# Altium schematic symbol library PX4FMUv2.4.6.SCHLIB: 56 symbols
Pins are listed as number, name and electrical type; pins without a type are passive.

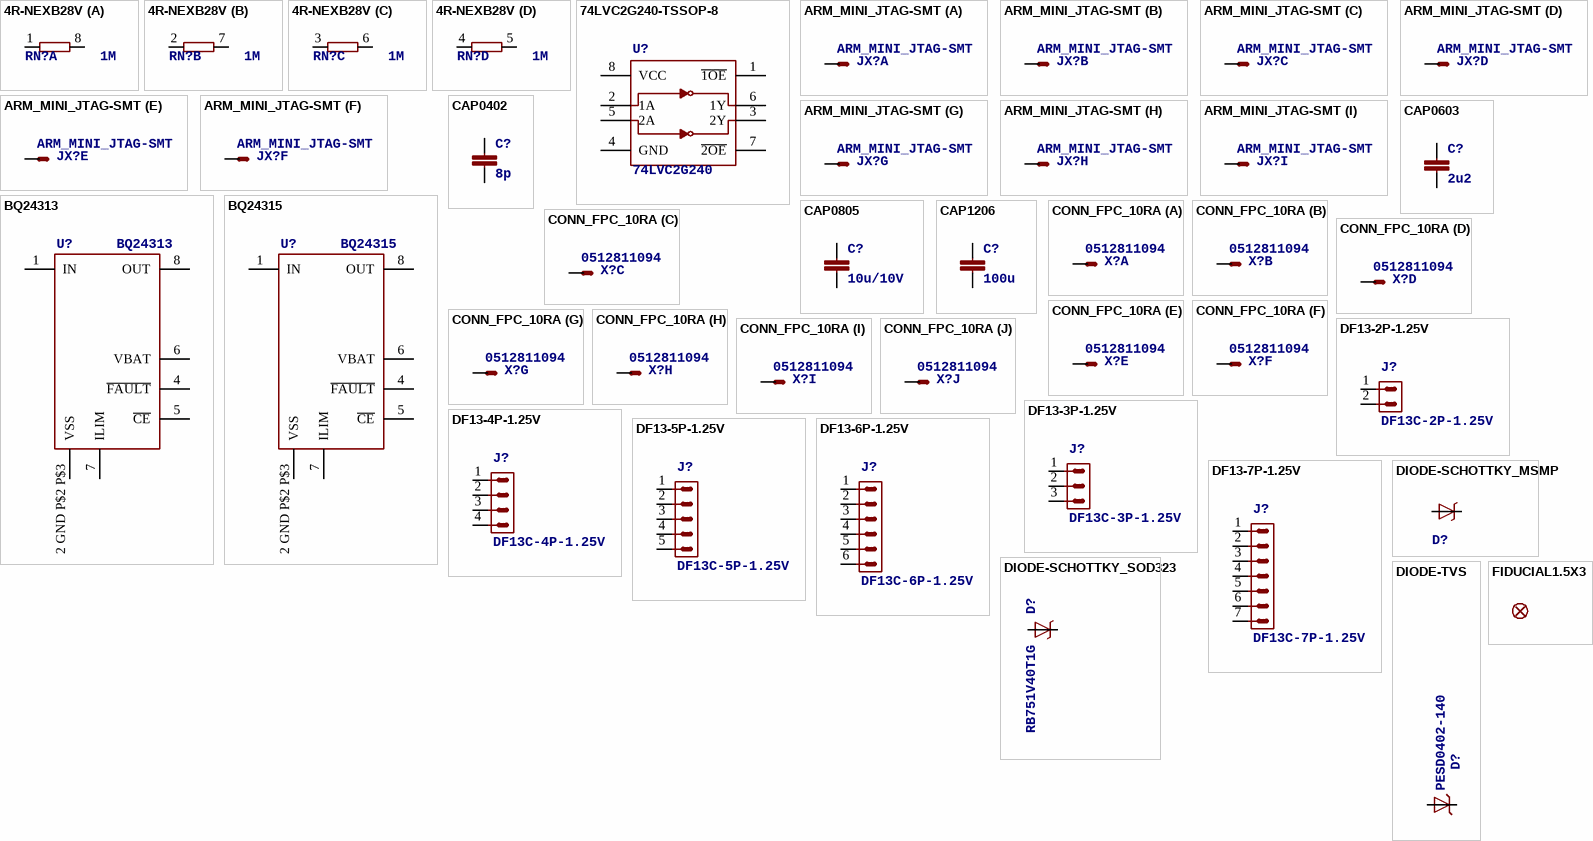
[diagram p0: symbols 4R-NEXB28V to FIDUCIAL1.5X3]

## 4R-NEXB28V
designator RN?, comment 1M
<b>Array Chip Resistor</b><p> / Source: RS Component / Phycomp; PARTNO: EXB-28V105JX; OC_FARNELL: unknown; OC_NEWARK: unknown
footprint EXB28V
footprint EXB28V
footprint EXB28V
footprint EXB28V
part A pins: 1, 8 2
part B pins: 2 1, 7 2
part C pins: 3 1, 6 2
part D pins: 4 1, 5 2

## 74LVC2G240-TSSOP-8
designator U?, comment 74LVC2G240
Dual inverter tri-state, 3.3V/5V compatible / <br /> / <a href="http://www.nxp.com/documents/data_sheet/74LVC2G240.pdf">http://www.nxp.com/documents/data_sheet/74LVC2G240.pdf</a><br /> / <a href="http://focus.ti.com/lit/ds/symlink/sn74lvc2g240.pdf">http://focus.ti.com/lit/ds/symlink/sn74lvc2g240.pdf</a>; PARTNO: 74LVC2G240DP,125
footprint TSSOP8_SOT505-2
pins: 1 ~{1OE}, 2 1A, 3 2Y, 4 GND (oe), 5 2A, 6 1Y, 7 ~{2OE}, 8 VCC (oe)

## ARM_MINI_JTAG-SMT
designator JX?
<b>CONNECTOR</b><p> / wire to board 1.25 mm (.049 inch) pitch header; PARTNO: M50-3900542; BOM: EXCLUDE
footprint FTSH-105-01-XXX-DV-K
footprint FTSH-105-01-XXX-DV-K
footprint FTSH-105-01-XXX-DV-K
footprint FTSH-105-01-XXX-DV-K
footprint FTSH-105-01-XXX-DV-K
footprint FTSH-105-01-XXX-DV-K
footprint FTSH-105-01-XXX-DV-K
footprint FTSH-105-01-XXX-DV-K
footprint FTSH-105-01-XXX-DV-K
part A pins: 1 S
part B pins: 2 S
part C pins: 3 S
part D pins: 4 S
part E pins: 5 S
part F pins: 6 S
part G pins: 8 S
part H pins: 9 S
part I pins: 10 S

## BQ24313
designator U?
PARTNO: BQ24313DSGT
footprint QFN8-DSG
pins: 1 IN, 2 GND P$2 P$3 VSS, 4 ~{FAULT}, 5 ~{CE}, 6 VBAT, 7 ILIM, 8 OUT

## BQ24315
designator U?
PARTNO: BQ24315DSGR
footprint QFN8-DSG
pins: 1 IN, 2 GND P$2 P$3 VSS, 4 ~{FAULT}, 5 ~{CE}, 6 VBAT, 7 ILIM, 8 OUT

## CAP0402
designator C?, comment 8p
<b>Capacitor</b> / Standard 0603 ceramic capacitor, and 0.1" leaded capacitor.; PARTNO: C1005C0G1H080C
footprint 0402-CAP
pins: P$1 1, P$2 2

## CAP0603
designator C?, comment 2u2
<b>Capacitor</b> / Standard 0603 ceramic capacitor, and 0.1" leaded capacitor.; PARTNO: C1608X6S1C225K080AC
footprint 0603-CAP
pins: P$1 1, P$2 2

## CAP0805
designator C?, comment 10u/10V
<b>Capacitor</b> / Standard 0603 ceramic capacitor, and 0.1" leaded capacitor.; PARTNO: CC0805ZKY5V6BB106
footprint 0805-CAP
pins: P$1 1, P$2 2

## CAP1206
designator C?, comment 100u
<b>Capacitor</b> / Standard 0603 ceramic capacitor, and 0.1" leaded capacitor.; PARTNO: C3216X5R1A107M160AC
footprint 1206-CAP
pins: P$1 1, P$2 2

## CONN_FPC_10RA
designator X?, comment 0512811094
10-pin FPC connector for PX4 sensor board; PARTNO: 0781191109; BOM: EXCLUDE
footprint 51281-1094
footprint 51281-1094
footprint 51281-1094
footprint 51281-1094
footprint 51281-1094
footprint 51281-1094
footprint 51281-1094
footprint 51281-1094
footprint 51281-1094
footprint 51281-1094
part A pins: 1 S
part B pins: 2 S
part C pins: 3 S
part D pins: 4 S
part E pins: 5 S
part F pins: 6 S
part G pins: 7 S
part H pins: 8 S
part I pins: 9 S
part J pins: 10 S

## DF13-2P-1.25V
designator J?, comment DF13C-2P-1.25V
DF13-2P / 1.25mm Pitch Miniature Crimping Connector.; PARTNO: DF13C-2P-1.25V(20)
footprint DF13C-2P-1.25V
pins: 1, 2

## DF13-3P-1.25V
designator J?, comment DF13C-3P-1.25V
DF13-3P / 1.25mm Pitch Miniature Crimping Connector.; PARTNO: DF13C-3P-1.25V(20)
footprint DF13C-3P-1.25V
pins: 1, 2, 3

## DF13-4P-1.25V
designator J?, comment DF13C-4P-1.25V
DF13-4P / 1.25mm Pitch Miniature Crimping Connector.; PARTNO: DF13C-4P-1.25V(20)
footprint DF13C-4P-1.25V
pins: 1, 2, 3, 4

## DF13-5P-1.25V
designator J?, comment DF13C-5P-1.25V
DF13-5P / 1.25mm Pitch Miniature Crimping Connector.; PARTNO: DF13C-5P-1.25V(20)
footprint DF13C-5P-1.25V
pins: 1, 2, 3, 4, 5

## DF13-6P-1.25V
designator J?, comment DF13C-6P-1.25V
DF13-6P / 1.25mm Pitch Miniature Crimping Connector.; PARTNO: DF13C-6P-1.25V(20)
footprint DF13C-6P-1.25V
pins: 1, 2, 3, 4, 5, 6

## DF13-7P-1.25V
designator J?, comment DF13C-7P-1.25V
DF13-7P / 1.25mm Pitch Miniature Crimping Connector.; PARTNO: DF13C-7P-1.25V(20)
footprint DF13C-7P-1.25V
pins: 1, 2, 3, 4, 5, 6, 7

## DIODE-SCHOTTKY_MSMP
designator D?, comment MSS1P4-M3  (value not drawn)
Schottky barrier diode in DO214AC, e.g. Fairchild SS14.
footprint MICROSMP
pins: ANODE A, CATHODE C

## DIODE-SCHOTTKY_SOD323
designator D?, comment RB751V40T1G
Schottky barrier diode in DO214AC, e.g. Fairchild SS14.
footprint SOD323
pins: A, C

## DIODE-TVS
designator D?, comment PESD0402-140
footprint 0402-TVS
pins: A, C

## FIDUCIAL1.5X3
designator JP?  (value not drawn)
<b>Fiducial Alignment Points</b> / Various fiducial points for machine vision alignment.; BOM: EXCLUDE; PARTNO: *
footprint FIDUCIAL-1.5X3

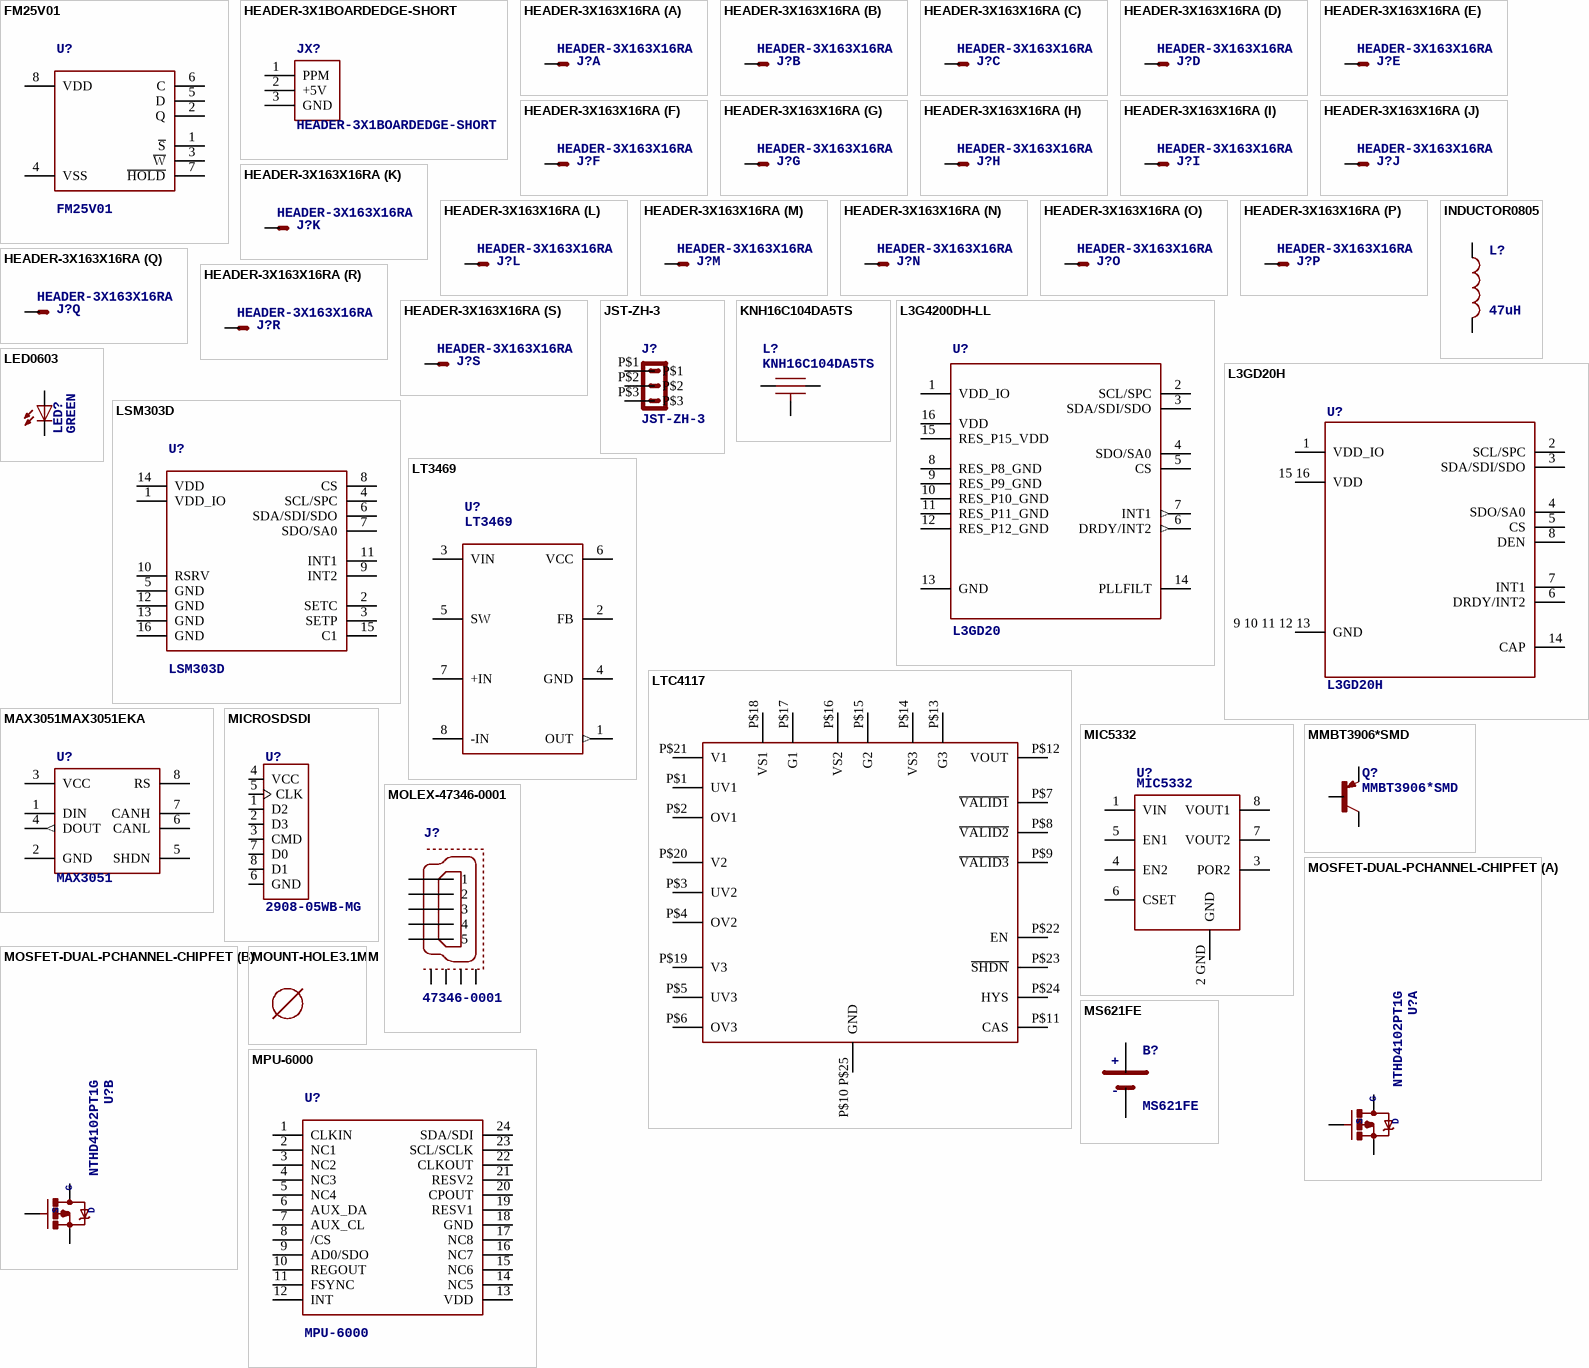
[diagram p1: symbols FM25V01 to MS621FE]

## FM25V01
designator U?
<b>FM25V01 128Kb Serial 3V F-RAM Memory</b>; PARTNO: FM25V01-G; DATASHEET: http://www.ramtron.com/files/datasheets/FM25V01_ds.pdf; LINK: http://www.digikey.com/product-detail/en/FM25V01-GTR/1140-1026-1-ND/2809832; MFGPN: FM25V01
footprint SO08
pins: 1 ~{S}, 2 Q, 3 ~{W}, 4 VSS, 5 D, 6 C, 7 ~{HOLD}, 8 VDD

## HEADER-3X1BOARDEDGE-SHORT
designator JX?
<h3>Single row 0.1" servo header</h3>; BOM: EXCLUDE
footprint HEADER_3X01_SMD_H_BOARD_EDGE_SHORT
pins: 1 PPM, 2 +5V, 3 GND

## HEADER-3X163X16RA
designator J?
3x16 servo header; BOM: EXCLUDE
footprint 3X16RA
footprint 3X16RA
footprint 3X16RA
footprint 3X16RA
footprint 3X16RA
footprint 3X16RA
footprint 3X16RA
footprint 3X16RA
footprint 3X16RA
footprint 3X16RA
footprint 3X16RA
footprint 3X16RA
footprint 3X16RA
footprint 3X16RA
footprint 3X16RA
footprint 3X16RA
footprint 3X16RA
footprint 3X16RA
footprint 3X16RA
part A pins: 1 S
part B pins: 2 S
part C pins: 4 S
part D pins: 7 S
part E pins: 10 S
part F pins: 13 S
part G pins: 16 S
part H pins: 19 S
part I pins: 22 S
part J pins: 25 S
part K pins: 28 S
part L pins: 31 S
part M pins: 34 S
part N pins: 37 S
part O pins: 40 S
part P pins: 43 S
part Q pins: 46 S
part R pins: 3 6 9 12 15 18 21 24 27 30 33 36 39 42 45 48 S
part S pins: 5 8 11 14 17 20 23 26 29 32 35 38 41 44 47 S

## INDUCTOR0805
designator L?, comment 47uH
<b>Inductors</b> / Basic Inductor/Choke - 0603 and 1210. Footprints are not proven and vary greatly between part numbers. / SRR1210: Bourns SRR1210 parts, e.g. SRR1210-100M; PARTNO: MLZ2012M470W
footprint 0805-IND
pins: P$1 1, P$2 2

## JST-ZH-3
designator J?
PARTNO: B3B-ZR-SM4-TF (LF)(SN)(P)
footprint JST-ZH-SMT-VERTICAL
pins: P$1, P$2, P$3

## KNH16C104DA5TS
designator L?
Kyocera KNH16C104DA5TS EMI filter; PARTNO: KNH16C104DA5TS
footprint KYOCERA-KNH16-DA
pins: P$1, P$2, P$3 P$4 P$5 P$3

## L3G4200DH-LL
designator U?, comment L3GD20
<h3>L3G4200DH - Digital 3-axis Gyroscope</h3> / The L3G4200DH is a low-power three-axis / angular rate sensor. The L3G4200DH has a full scale of ±250/±500/ / ±2000 dps and is capable of measuring rates with / a user-selectable bandwidth. It can operate within a / temperature range from -40 °C to +85 °C. Supply voltage: 2.4 V to 3.6 V. Full datasheet:<br /><br /> / <a href="http://www.st.com/stonline/products/literature/ds/17300.pdf">L3G4200DH Datasheet</a>; PARTNO: L3GD20
footprint L3G4200DH-MAN
pins: 1 VDD_IO, 2 SCL/SPC, 3 SDA/SDI/SDO, 4 SDO/SA0, 5 CS, 6 DRDY/INT2 (out), 7 INT1 (out), 8 RES_P8_GND, 9 RES_P9_GND, 10 RES_P10_GND, 11 RES_P11_GND, 12 RES_P12_GND, 13 GND, 14 PLLFILT, 15 RES_P15_VDD, 16 VDD

## L3GD20H
designator U?
<b>L3GD20H MEMS motion sensor: 3-axis digital output gyroscope</b>; BOM: EXCLUDE; DATASHEET: http://www.st.com/internet/com/TECHNICAL_RESOURCES/TECHNICAL_LITERATURE/DATASHEET/DM00060659.pdf; LINK: http://www.st.com/internet/analog/product/254039.jsp; MFGPN: L3GD20H; PARTNO: L3GD20H
footprint LGA-16L
pins: 1 VDD_IO, 2 SCL/SPC, 3 SDA/SDI/SDO, 4 SDO/SA0, 5 CS, 6 DRDY/INT2, 7 INT1, 8 DEN, 9 10 11 12 13 GND, 14 CAP, 15 16 VDD

## LED0603
designator LED?, comment GREEN
<b>LEDs</b> / Standard schematic elements and footprints for 5mm, 3mm, 1206, and 0603 sized LEDs. 5mm - Spark Fun Electronics SKU : COM-00529 (and others); PARTNO: APTD1608CGCK
footprint 0603-LED
pins: A, C

## LSM303D
designator U?
<b>LSM303D Ultra compact high performance e-compass: 3D accelerometer and 3D magnetometer module</b>; DATASHEET: http://www.st.com/internet/com/TECHNICAL_RESOURCES/TECHNICAL_LITERATURE/DATASHEET/DM00057547.pdf; LINK: http://www.st.com/internet/analog/product/253884.jsp; MFGPN: LSM303D; PARTNO: LSM303D
footprint LGA-16L
pins: 1 VDD_IO, 2 SETC, 3 SETP, 4 SCL/SPC, 5 GND, 6 SDA/SDI/SDO, 7 SDO/SA0, 8 CS, 9 INT2, 10 RSRV, 11 INT1, 12 GND, 13 GND, 14 VDD, 15 C1, 16 GND

## LT3469
designator U?
LT3469 Piezo microactuator driver with boost regulator; PARTNO: LT3469ETS8
footprint SOT23-8
pins: 1 OUT (out), 2 FB, 3 VIN (power), 4 GND (power), 5 SW, 6 VCC, 7 +IN, 8 -IN

## LTC4117
designator U?, comment LTC4417  (value not drawn)
PARTNO: LTC4417IUF#PBF
footprint MO-220
pins: P$1 UV1, P$2 OV1, P$3 UV2, P$4 OV2, P$5 UV3, P$6 OV3, P$7 ~{VALID1}, P$8 ~{VALID2}, P$9 ~{VALID3}, P$10 P$25 GND, P$11 CAS, P$12 VOUT, P$13 G3, P$14 VS3, P$15 G2, P$16 VS2, P$17 G1, P$18 VS1, P$19 V3, P$20 V2, P$21 V1, P$22 EN, P$23 ~{SHDN}, P$24 HYS

## MAX3051MAX3051EKA
designator U?, comment MAX3051
3.3-V CAN TRANSCEIVER; PARTNO: MAX3051EKA
footprint SOT23-8
pins: 1 DIN, 2 GND (oe), 3 VCC, 4 DOUT (out), 5 SHDN, 6 CANL, 7 CANH, 8 RS

## MIC5332
designator U?
PARTNO: MIC5332-SSYMT
footprint MLF-8-EPAD
pins: 1 VIN, 2 GND GND, 3 POR2, 4 EN2, 5 EN1, 6 CSET, 7 VOUT2, 8 VOUT1

## MICROSDSDI
designator U?, comment 2908-05WB-MG
PARTNO: 2908-05WB-MG
footprint MICROSD
pins: 1 D2, 2 D3, 3 CMD, 4 VCC, 5 CLK, 6 GND (oe), 7 D0, 8 D1

## MMBT3906*SMD
designator Q?
<b>PNP Transistror</b>
footprint SOT23-BEC
pins: B, C, E

## MOLEX-47346-0001
designator J?, comment 47346-0001
MICRO USB B, BOTTOM MOUNT
footprint MOLEX-47346-0001
pins: D+ 3, D- 2, GND 5 (oe), GND1, GND2, GND3, GND4, ID 4, VBUS 1 (oe)

## MOSFET-DUAL-PCHANNEL-CHIPFET
designator U?, comment NTHD4102PT1G
PARTNO: NTHD4102PT1G; D: D; S: S; G: G
footprint 1206-8
footprint 1206-8
part A pins: P$1 S, P$2 G, P$7 P$8 D
part B pins: P$3 S, P$4 G, P$5 P$6 D

## MOUNT-HOLE3.1MM
designator M3_MOUNT?  (value not drawn)
BOM: EXCLUDE; PARTNO: *
footprint MOUNT-HOLE3.1

## MPU-6000
designator U?
<b>Invensense MPU-6000: 3-axis gyro, 3-axis accel & 9-axis MotionFusion</b> / <br> / <br> / The MPU-60X0 Motion Processing Unit (MPU?) is the world?s first motion processing solution with / integrated 9-axis sensor fusion for handset and tablet applications, game controllers, motion pointer remote / controls, and other consumer devices. The MPU-60X0 has an embedded 3-axis MEMS gyroscope, 3-axis / MEMS accelerometer and Digital Motion Processor? (DMP) hardware accelerator engine with an auxiliary / I / 2 / C port that interfaces to third party digital sensors, such as magnetometers. Interfacing with a 3-axis / magnetometer delivers a complete 9-axis sensor fusion output to the MPU?s primary I / 2 / C or SPI port. (SPI is / available on MPU-6000 only). This combines acceleration and rotational motion plus heading information into / a single data stream for the application; DATASHEET: http://invensense.com/mems/gyro/documents/PS-MPU-6000A-00_v1.0.pdf; LINK: http://invensense.com/mems/gyro/mpu6000.html; MFGPN: MPU-6000; PARTNO: MPU-6000
footprint QFN-24
pins: 1 CLKIN, 2 NC1, 3 NC2, 4 NC3, 5 NC4, 6 AUX_DA, 7 AUX_CL, 8 /CS, 9 AD0/SDO, 10 REGOUT, 11 FSYNC, 12 INT, 13 VDD, 14 NC5, 15 NC6, 16 NC7, 17 NC8, 18 GND, 19 RESV1, 20 CPOUT, 21 RESV2, 22 CLKOUT, 23 SCL/SCLK, 24 SDA/SDI

## MS621FE
designator B?
<b>SEIKO 6.8mm Rechargeable 3V lithium battery<b> / <br> / <br> / <b>If discontinued or not available, similar devices are available from Panasonic and Sanyo, usually direct replacements.<b>; PARTNO: MS621FE-FL11E; DATASHEET: http://speed.sii.co.jp/data/file_PRODUCT_MASTER_50112_TITLE_IMAGESP.pdf; LINK: http://search.digikey.com/us/en/products/MS621FE-FL11E/728-1057-ND/1889208; MFGPN: MS621FE; +: +; -: -
footprint MS621FE
pins: 1 POS, 2 NEG

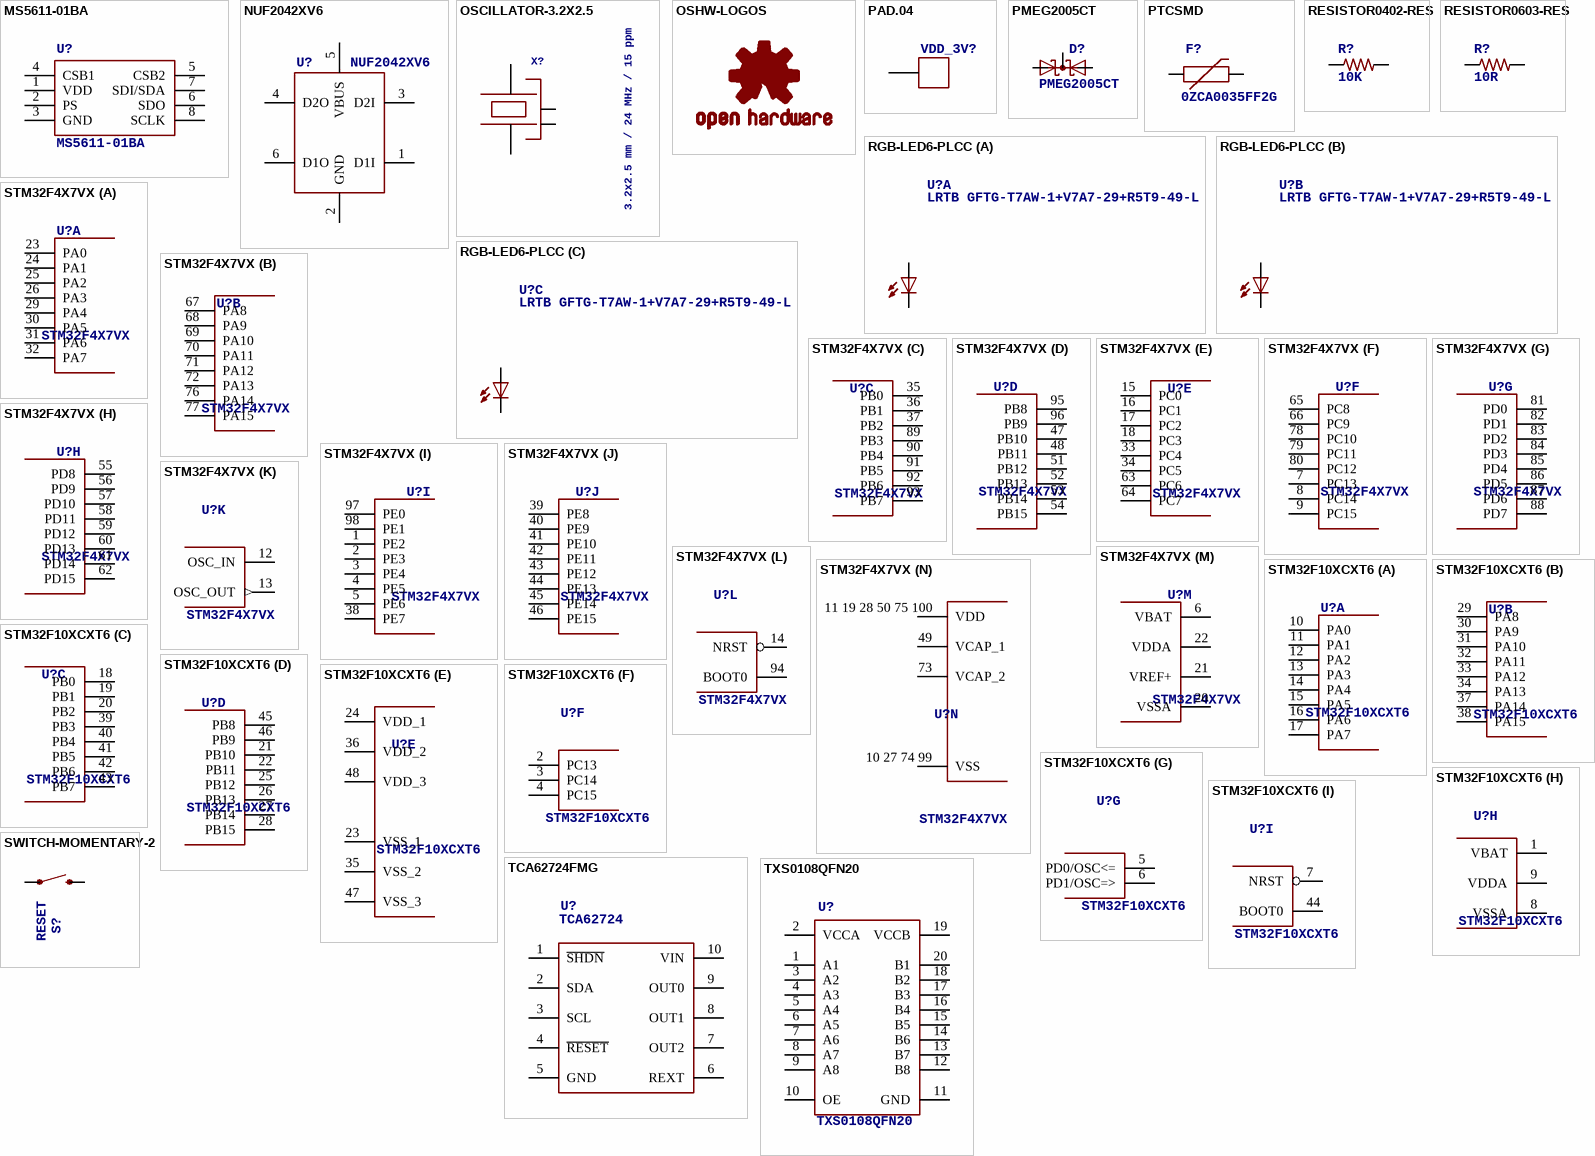
[diagram p2: symbols MS5611-01BA to TXS0108QFN20]

## MS5611-01BA
designator U?
<b>MS5611-01BA</b> / <p>The MS5611-01BA is a new generation of high resolution altimeter sensors from MEAS Switzerland with SPI / and I / 2 / C bus interface. It is optimized for altimeters and  variometers with an altitude resolution of 10 cm. The / sensor module includes a high linearity pressure sensor and an ultra low power 24 bit ?? ADC with internal / factory calibrated coefficients. It provides a precise digital 24 Bit pressure and temperature value and different / operation modes that allow the user to optimize for conversion speed and current consumption. A high / resolution temperature output allows the implementation of an altimeter/thermometer function without any / additional sensor. The MS5611-01BA can be interfaced to virtually any microcontroller. The communication / protocol is simple, without the need of programming internal registers in the device. Small dimensions of only / 5.0 mm x 3.0 mm and a height of 1.7 mm allow for integration in mobile devices. This new sensor module / generation is based on leading MEMS technology and latest benefits from  MEAS Switzerland proven / experience and know-how in high volume manufacturing of altimeter modules, which have been widely used for / over a decade. The sensing principle employed leads to very low hysteresis and high stability of both pressure / and temperature signal.</p> / <ul> / <li>High resolution module, 10 cm </li> / <li>Fast conversion down to 1 ms </li> / <li>Low power, 1 µA (standby < 0.15 µA) </li> / <li>QFN package 5.0 x 3.0 x 1.7 mm3</li> / <li>Supply voltage 1.8 to 3.6 V </li> / <li>Integrated digital pressure sensor (24 bit ?? ADC) </li> / <li>Operating range: 10 to 1200 mbar, -40 to +85 °C </li> / <li>I2C and SPI interface up to 20 MHz </li> / <li>No external components (Internal oscillator) </li> / <li>Excellent long term stability</li> / </ul>; DATASHEET: http://www.meas-spec.com/downloads/MS5611-01BA01.pdf; LINK: http://www.meas-spec.com/product/t_product.aspx?id=8503#; MFGPN: MS5611-01BA; PARTNO: MS5611-01BA
footprint MS5611-01BA
pins: 1 VDD, 2 PS, 3 GND, 4 CSB1, 5 CSB2, 6 SDO, 7 SDI/SDA, 8 SCLK

## NUF2042XV6
designator U?
PARTNO: NUF2042XV6T1G
footprint SOT563-6
pins: 1 D1I, 2 GND, 3 D2I, 4 D2O, 5 VBUS, 6 D1O

## OSCILLATOR-3.2X2.5
designator X?, comment 3.2x2.5 mm / 24 MHz / 15 ppm
Crystal Oscillator in 3.2x2.5 SMD
footprint OSCILLATOR-3.2X2.5
pins: 1, 2 NC_2 (oe), 3, 4 NC_4 (oe)

## OSHW-LOGOS
designator OSHW_LOGO?  (value not drawn)
<b>Open Source Hardware Logo</b> This logo indicates the piece of hardware it is found on incorporates a OSHW license and/or adheres to the definition of open source hardware found here: http://freedomdefined.org/OSHW; BOM: EXCLUDE; PARTNO: *
footprint OSHW-LOGO-S

## PAD.04
designator VDD_3V?  (value not drawn)
<h3>Test pad</h3> / This footprint includes three classes: The actual test pads, a pogo-pin footprint to mount the pogo-pin as through-hole part and a hole footprint which allows the head of the pogo-pin to pass through (do NOT use the hole to mount the pogo-pin). In a typical test setup, the stack would consist of three PCBs: The actual PCB under testing with a test pad on the bottom, then a second PCB with the hole for the pogo-pin head where the PCB under testing is pressed on and a third PCB at 30 mm / 1.2" distance with the pogo-pin footprints. The pogo-pins are soldered to the last PCB. To create the stack, copy the board under testing and exchange the footprints - this way the correct positioning is ensured.; BOM: EXCLUDE; PARTNO: *
footprint PAD.04X.04
pins: P$1

## PMEG2005CT
designator D?
<b>500 mA low VF dual MEGA Schottky barrier rectifier</b> / <p>http://www.nxp.com/documents/data_sheet/PMEG2005CT.pdf</p>; PARTNO: PMEG2005CT
footprint SOT23-3
pins: 1 A1, 2 A2, 3 CC

## PTCSMD
designator F?, comment 0ZCA0035FF2G
<b>Resettable Fuse PTC</b> / Resettable Fuse. Spark Fun Electronics SKU : COM-08357; PARTNO: 0ZCA0035FF2G
footprint PTC-1206
pins: 1, 2

## RESISTOR0402-RES
designator R?, comment 10K
<b>Resistor</b> / Basic schematic elements and footprints for 0603, 1206, and PTH 1/10th watt (small) resistors.; PARTNO: RC0402FR-0710KL
footprint 0402-RES
pins: P$1 1, P$2 2

## RESISTOR0603-RES
designator R?, comment 10R
<b>Resistor</b> / Basic schematic elements and footprints for 0603, 1206, and PTH 1/10th watt (small) resistors.; PARTNO: RC1608J100CS
footprint 0603-RES
pins: 1, 2

## RGB-LED6-PLCC
designator U?, comment LRTB GFTG-T7AW-1+V7A7-29+R5T9-49-L
RGB LED with separate anode/cathode terminals; PARTNO: LRTB GFTG-T7AW-1+V7A7-29+R5T9-49-L
footprint 6-PLCC
footprint 6-PLCC
footprint 6-PLCC
part A pins: A1 A, C1 C
part B pins: A2 A, C2 C
part C pins: A3 A, C3 C

## STM32F4X7VX
designator U?
STM32F4X7VX 100 pin LQFP / STM32F407VE - 512 KB flash, no crypto / STM32F407VG - 1 MB flash, no crypto / STM32F417VE - 512 KB flash, with crypto / STM32F417VG - 1 MB flash, with crypto; PARTNO: STM32F427VI
footprint TQFP100 (Footprint not found)
footprint TQFP100 (Footprint not found)
footprint TQFP100 (Footprint not found)
part A pins: 23 PA0, 24 PA1, 25 PA2, 26 PA3, 29 PA4, 30 PA5, 31 PA6, 32 PA7
part B pins: 67 PA8, 68 PA9, 69 PA10, 70 PA11, 71 PA12, 72 PA13, 76 PA14, 77 PA15
part C pins: 35 PB0, 36 PB1, 37 PB2, 89 PB3, 90 PB4, 91 PB5, 92 PB6, 93 PB7
part D pins: 47 PB10, 48 PB11, 51 PB12, 52 PB13, 53 PB14, 54 PB15, 95 PB8, 96 PB9
part E pins: 15 PC0, 16 PC1, 17 PC2, 18 PC3, 33 PC4, 34 PC5, 63 PC6, 64 PC7
part F pins: 7 PC13, 8 PC14, 9 PC15, 65 PC8, 66 PC9, 78 PC10, 79 PC11, 80 PC12
part G pins: 81 PD0, 82 PD1, 83 PD2, 84 PD3, 85 PD4, 86 PD5, 87 PD6, 88 PD7
part H pins: 55 PD8, 56 PD9, 57 PD10, 58 PD11, 59 PD12, 60 PD13, 61 PD14, 62 PD15
part I pins: 1 PE2, 2 PE3, 3 PE4, 4 PE5, 5 PE6, 38 PE7, 97 PE0, 98 PE1
part J pins: 39 PE8, 40 PE9, 41 PE10, 42 PE11, 43 PE12, 44 PE13, 45 PE14, 46 PE15
part K pins: 12 OSC_IN, 13 OSC_OUT (out)
part L pins: 14 NRST, 94 BOOT0
part M pins: 6 VBAT (power), 20 VSSA (power), 21 VREF+, 22 VDDA (power)
part N pins: 10 27 74 99 VSS (power), 11 19 28 50 75 100 VDD (power), 49 VCAP_1 (power), 73 VCAP_2 (power)

## STM32F10XCXT6
designator U?
ST STM32F101/103 48pin LQFP; PARTNO: STM32F100C8T6B
footprint TQFP48
footprint TQFP48
footprint TQFP48
footprint TQFP48
footprint TQFP48
footprint TQFP48
footprint TQFP48
footprint TQFP48
footprint TQFP48
part A pins: 10 PA0, 11 PA1, 12 PA2, 13 PA3, 14 PA4, 15 PA5, 16 PA6, 17 PA7
part B pins: 29 PA8, 30 PA9, 31 PA10, 32 PA11, 33 PA12, 34 PA13, 37 PA14, 38 PA15
part C pins: 18 PB0, 19 PB1, 20 PB2, 39 PB3, 40 PB4, 41 PB5, 42 PB6, 43 PB7
part D pins: 21 PB10, 22 PB11, 25 PB12, 26 PB13, 27 PB14, 28 PB15, 45 PB8, 46 PB9
part E pins: 23 VSS_1 (power), 24 VDD_1 (power), 35 VSS_2 (power), 36 VDD_2 (power), 47 VSS_3 (power), 48 VDD_3 (power)
part F pins: 2 PC13, 3 PC14, 4 PC15
part G pins: 5 PD0/OSC<=, 6 PD1/OSC=>
part H pins: 1 VBAT (power), 8 VSSA (power), 9 VDDA (power)
part I pins: 7 NRST, 44 BOOT0

## SWITCH-MOMENTARY-2
designator S?, comment RESET
footprint EVQP7J01K
pins: A1 1, B3 2

## TCA62724FMG
designator U?  (value not drawn)
Toshiba TCA62724FMG I2C RGB LED driver; PARTNO: TCA62724FMG; TCA62724: TCA62724
footprint SON10
pins: 1 ~{SHDN}, 2 SDA, 3 SCL, 4 ~{RESET}, 5 GND (power), 6 REXT, 7 OUT2 (oc), 8 OUT1 (oc), 9 OUT0 (oc), 10 VIN (power)

## TXS0108QFN20
designator U?
PARTNO: TXS0108ERGYR
footprint QFN20-RGY
pins: 1 A1, 2 VCCA, 3 A2, 4 A3, 5 A4, 6 A5, 7 A6, 8 A7, 9 A8, 10 OE, 11 GND (oe), 12 B8, 13 B7, 14 B6, 15 B5, 16 B4, 17 B3, 18 B2, 19 VCCB, 20 B1